# Altium schematic symbol library pth-potentiometer.SchLib: 1 symbol
Pins are listed as number, name and electrical type; pins without a type are passive.

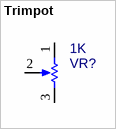
[diagram p0: symbol Trimpot]

## Trimpot
designator VR?  value 1K  (hidden comment: *)
Trimmer Potentiometer; PN: *; ExtraInfo: *
footprint Trimmer-Top (Cermet Trimmer 7mm x 7mm x 5.8mm)
pins: 1, 2, 3